# Altium footprint library CAN_Test_Runner.PcbLib: 34 footprints (part 3 of 3)
Each footprint in its own frame and in the unit in brackets; x right, y up, seen from the top. Pads: shape width x height; smd on the part's side, far side on the other; paste and mask are expansions set on the pad; w line width, h text height; cw(c..) or ccw(c..) is an arc to the next point about the centre after c.
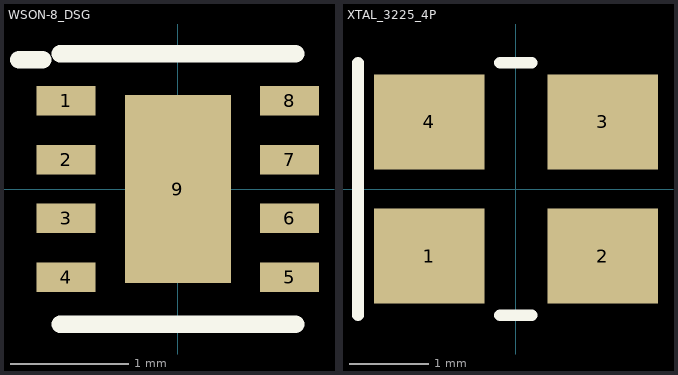
[diagram p2: the footprints below, top view; thin cyan lines are the x and y axes]

## WSON-8_DSG [mm] "TI DSG0008A WSON-8 2x2, TI example board layout"
height 0.8
pads (9):
  rect 0.5x0.25 smd: 1(-0.95,0.75) 2(-0.95,0.25) 3(-0.95,-0.25) 4(-0.95,-0.75) 5(0.95,-0.75) 6(0.95,-0.25) 7(0.95,0.25) 8(0.95,0.75)
  rect 0.9x1.6 smd: 9(0,0)
Top Overlay:
  lines w0.15: -1.35,1.1 -1.15,1.1 ; -1,-1.15 1,-1.15 ; -1,1.15 1,1.15

## XTAL_3225_4P [mm] "3.2 x 2.5 mm 4-pad crystal (Abracon ABM8), x-check KiCad Crystal_SMD_3225-4Pin"
height 0.8
pads (4):
  rect 1.4x1.2 smd: 1(-1.1,-0.85) 2(1.1,-0.85) 3(1.1,0.85) 4(-1.1,0.85)
Top Overlay:
  lines w0.15: -2,-1.6 -2,1.6 ; -0.2,-1.6 0.2,-1.6 ; -0.2,1.6 0.2,1.6